# EAGLE library part TPS54228 (library added_parts)
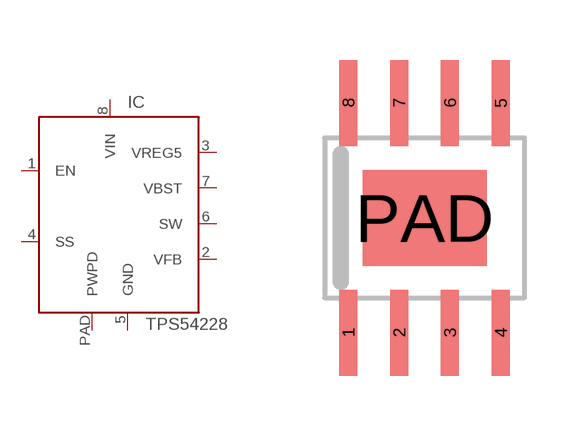
[diagram p23: symbol with the pads of HSOP-8; footprint HSOP-8]

Designator prefix IC

## TPS54228DDA  [HSOP-8]
1  EN  in
2  VFB  in
3  VREG5  sup
4  SS  in
5  GND  pwr
6  SW  out
7  VBST  in
8  VIN  pwr
PAD  PWPD  pas

## Footprint HSOP-8 (pad centres in mm)
smd 0.45 x 2.15: 1 -1.905,-2.875; 2 -0.635,-2.875; 3 0.635,-2.875; 4 1.905,-2.875; 5 1.905,2.875; 6 0.635,2.875; 7 -0.635,2.875; 8 -1.905,2.875
smd 3.1 x 2.4: PAD 0,0